# Altium schematic symbol library HBLib.SchLib: 29 symbols
Pins are listed as number, name and electrical type; pins without a type are passive.

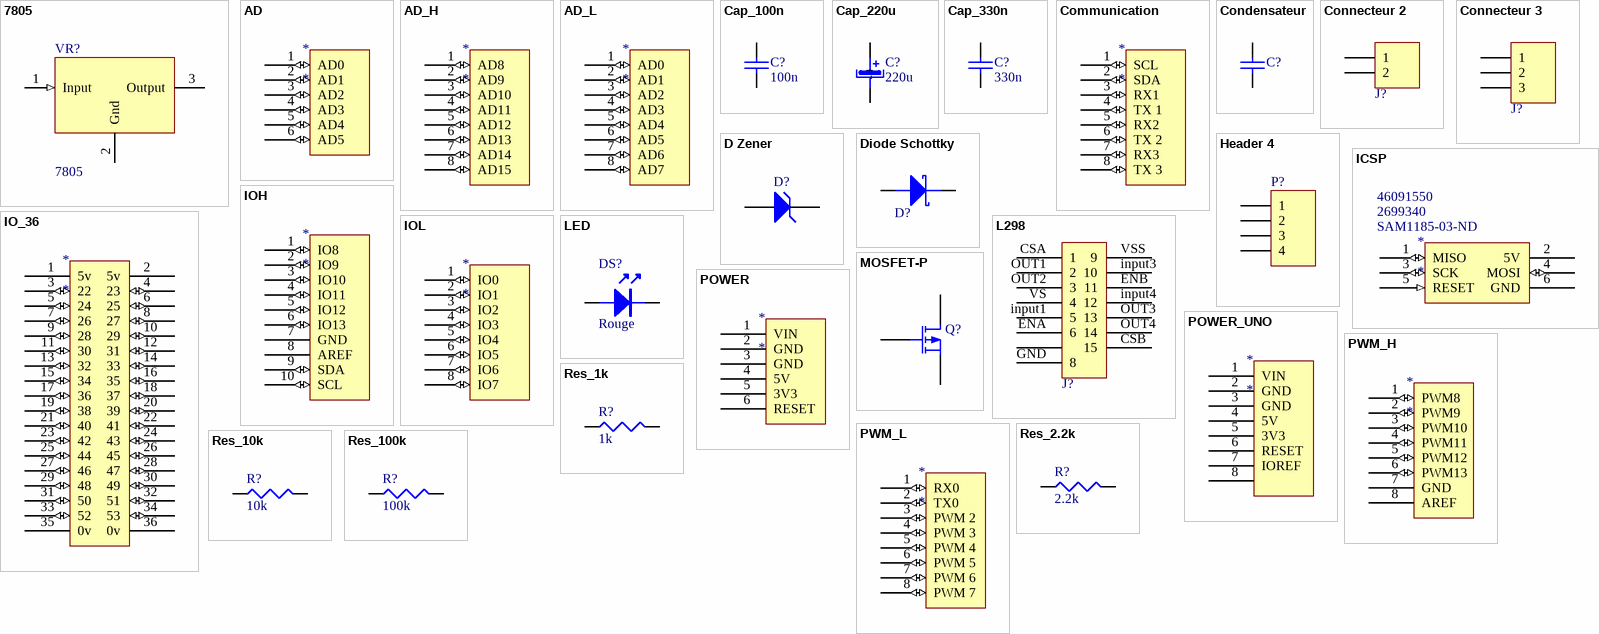
[diagram p0: symbols 7805 to Res_100k]

## 7805
designator VR?  Type: 7805
Régulateur 5V; Supplier: RS 536-0969; Designer: ECAM 2004
footprint TO252
footprint TO-220AB (TO, Thru-Hole, Vertical, Heatsink Mounted; 3 In-Line Leads; Pitch 2.54 mm)
pins: 1 Input (in), 2 Gnd (power), 3 Output (power)

## AD
designator *
Header, 6-Pin; Supplier: Farnell 2578705
footprint Header 6x1 8.5mm (Stackable 6 pin header)
pins: 1 AD0 (io), 2 AD1 (io), 3 AD2 (io), 4 AD3 (io), 5 AD4 (io), 6 AD5 (io)

## AD_H
designator *
Header, 8-Pin; Supplier: Farnell 2505051
footprint Header 8x1 8.5mm (Stackable 8 pin header)
pins: 1 AD8 (io), 2 AD9 (io), 3 AD10 (io), 4 AD11 (io), 5 AD12 (io), 6 AD13 (io), 7 AD14 (io), 8 AD15 (io)

## AD_L
designator *
Header, 8-Pin; Supplier: Farnell 2505051
footprint Header 8x1 8.5mm (Stackable 8 pin header)
pins: 1 AD0 (io), 2 AD1 (io), 3 AD2 (io), 4 AD3 (io), 5 AD4 (io), 6 AD5 (io), 7 AD6 (io), 8 AD7 (io)

## Cap_100n
designator C?  value 100n
Condensateur; Supplier: Farnell  2534095; Designer: ECAM 2004
footprint C1206 (Chip Capacitor, Body 3.2x1.6mm, IPC High Density)
footprint Model Name (Model Description)
pins: 1, 2

## Cap_220u
designator C?  value 220u
Condensateur polatisé; Type: Condensateur polarisé debout; Designer: ECAM 2004; Supplier: RS 537-0641
footprint CAPAE0810X700N
pins: NEG -, POS +
2 alternate drawings of the same symbol

## Cap_330n
designator C?  value 330n
Condensateur; Supplier: Farnell  2320905; Designer: ECAM 2004
footprint C1206 (Chip Capacitor, Body 3.2x1.6mm, IPC High Density)
footprint Model Name (Model Description)
pins: 1, 2

## Communication
designator *
Header, 8-Pin; Supplier: Farnell 2505051
footprint Header 8x1 8.5mm (Stackable 8 pin header)
pins: 1 SCL (io), 2 SDA (io), 3 RX1 (io), 4 TX 1 (io), 5 RX2 (io), 6 TX 2 (io), 7 RX3 (io), 8 TX 3 (io)

## Condensateur
designator C?
Condensateur; Supplier: Farnell; Designer: ECAM 2004
footprint C1206 (Chip Capacitor, Body 3.2x1.6mm, IPC High Density)
footprint Model Name (Model Description)
pins: 1, 2

## Connecteur 2
designator J?
Connecteur; Designer: ECAM 2005; Supplier: ECAM; Type: Connecteur à vis
footprint Header_2
pins: 1, 2

## Connecteur 3
designator J?
Connecteur; Designer: ECAM 2004; Type: Connecteur à vis
footprint CONVIS-3 (Connecteur à vis 3 contacts Pitch 5.08)
footprint HDR1X3 (Connector; Header; 3 Position)
pins: 1, 2, 3

## D Zener
designator D?
Zener Diode; Published: 8-Jun-2000; LatestRevisionDate: 17-Jul-2002; LatestRevisionNote: Re-released for DXP Platform.; PackageReference: DIODE-0.7; Publisher: Altium Limited; PackageDescription: Diode, Thru-Hole; 2 Leads; 0.7 in Pin Spacing; Supplier: RS 687-8146
footprint SOD-123
pins: 1 K, 2 A

## Diode Schottky
designator D?
Diode Schottky; Designer: ECAM 2005; Supplier: RS 708-2197
footprint SOD-123
pins: 1 K, 2 A

## Header 4
designator P?
Header, 4-Pin; LatestRevisionDate: 17-Jul-2002; LatestRevisionNote: Re-released for DXP Platform.; Publisher: Altium Limited; Supplier: Farnell 9731164
footprint MOLEX_22-27-2081
pins: 1, 2, 3, 4

## ICSP
designator *  Supplier Part Number 1: SAM1185-03-ND  Supplier Part Number 2: 2699340  Supplier Part Number 3: 46091550
Supplier 1: Digi-Key; Supplier 2: Arrow; Supplier 3: Arrow
footprint ICSP
pins: 1 MISO (io), 2 5V (power), 3 SCK (io), 4 MOSI (io), 5 RESET (in), 6 GND (power)

## IO_36
designator *
Header, 36-Pin; Supplier: RS 180-0956
footprint HEADER 36X 8MM (Stackable 10 pin header)
pins: 1 5v (power), 2 5v (power), 3 22 (io) "Digital 22", 4 23 (io) "Digital 23", 5 24 (io) "Digital 24", 6 25 (io) "Digital 25", 7 26 (io) "Digital 26", 8 27 (io) "Digital 27", 9 28 (io) "Digital 28", 10 29 (io) "Digital 29", 11 30 (io) "Digital 30", 12 31 (io) "Digital 31", 13 32 (io) "Digital 32", 14 33 (io) "Digital 33", 15 34 (io) "Digital 34", 16 35 (io) "Digital 35", 17 36 (io) "Digital 36", 18 37 (io) "Digital 37", 19 38 (io) "Digital 38", 20 39 (io) "Digital 39", 21 40 (io) "Digital 40", 22 41 (io) "Digital 41", 23 42 (io) "Digital 42", 24 43 (io) "Digital 43", 25 44 (io) "Digital 44", 26 45 (io) "Digital 45", 27 46 (io) "Digital 46", 28 47 (io) "Digital 47", 29 48 (io) "Digital 48", 30 49 (io) "Digital 49", 31 50 (io) "Digital 50", 32 51 (io) "Digital 51", 33 52 (io) "Digital 52", 34 53 (io) "Digital 53", 35 0v (power), 36 0v (power)

## IOH
designator *
Header, 10-Pin; Supplier: Farnell 2667433
footprint Header 10x1 8.5mm (Stackable 10 pin header)
pins: 1 IO8 (io), 2 IO9 (io), 3 IO10 (io), 4 IO11 (io), 5 IO12 (io), 6 IO13 (io), 7 GND (power), 8 AREF, 9 SDA (io), 10 SCL (io)

## IOL
designator *
Header, 8-Pin; Supplier: Farnell 2505051
footprint Header 8x1 8.5mm (Stackable 8 pin header)
pins: 1 IO0 (io), 2 IO1 (io), 3 IO2 (io), 4 IO3 (io), 5 IO4 (io), 6 IO5 (io), 7 IO6 (io), 8 IO7 (io)

## L298
designator J?
Connecteur; Designer: ECAM 2004; Supplier: ECAM
footprint MultiWatt15 (MultiWatt15; 15 Leads; Row Spacing 5.08 mm; Pitch 2.54 mm)
pins: CSA 1, CSB 15, ENA 6, ENB 11, GND 8, input1 5, input2 7, input3 10, input4 12, OUT1 2, OUT2 3, OUT3 13, OUT4 14, VS 4, VSS 9

## LED
designator DS?  Color: Rouge
LED; Designer: ECAM 2004; Type: LED; Supplier: RS 176-6077
footprint 3.5X2.8X1.9 (SM LED; 2 C-Bend Leads; Body 3.5 x 2.8 x 1.9 mm, inc leads (LxWxH typ))
pins: 1 A, 2 K

## MOSFET-P
designator Q?
P-Channel MOSFET; Published: 8-Jun-2000; LatestRevisionDate: 17-Jul-2002; LatestRevisionNote: Re-released for DXP Platform.; PackageVersion: 1995/1996; PackageReference: E3; Publisher: Altium Limited; PackageDescription: TO, Flat Index; 3 In-Line, Axial Leads; Body Dia. 4.6mm; Lead Dia. 0.5 mm (max); Supplier: RS 760-4246
footprint TO-220-AB (TO, Thru-Hole, Vertical, Heatsink Mounted; 3 In-Line Leads; Pitch 2.54 mm)
pins: D, G, S

## POWER
designator *
Header, 6-Pin; Supplier: Farnell 2578705
footprint Header 6x1 8.5mm (Stackable 6 pin header)
pins: 1 VIN (power), 2 GND (power), 3 GND (power), 4 5V (power), 5 3V3 (power), 6 RESET

## POWER_UNO
designator *
Header, 8-Pin; Supplier: Farnell 2505051
footprint Header 8x1 8.5mm (Stackable 8 pin header)
pins: 1 VIN (power), 2 GND (power), 3 GND (power), 4 5V (power), 5 3V3 (power), 6 RESET, 7 IOREF (power), 8

## PWM_H
designator *
Header, 8-Pin; Supplier: Farnell 2505051
footprint Header 8x1 8.5mm (Stackable 8 pin header)
pins: 1 PWM8 (io) "PWM 8", 2 PWM9 (io) "PWM 9", 3 PWM10 (io) "PWM 10", 4 PWM11 (io) "PWM 11", 5 PWM12 (io) "PWM 12", 6 PWM13 (io) "PWM 13", 7 GND (power), 8 AREF

## PWM_L
designator *
Header, 8-Pin; Supplier: Farnell 2505051
footprint Header 8x1 8.5mm (Stackable 8 pin header)
pins: 1 RX0 (io) "PWM 0 & RX0", 2 TX0 (io) "PWM 1 & TX0", 3 PWM 2 (io), 4 PWM 3 (io), 5 PWM 4 (io), 6 PWM 5 (io), 7 PWM 6 (io), 8 PWM 7 (io)

## Res_1k
designator R?  value 1k
Résistance standard; Designer: ECAM 2005; Supplier: RS 566-800; Type: Résistance standard
footprint 6-0805_L (Chip Resistor, Body 2.0x1.2mm, IPC High Density)
footprint J1-0603 (Chip Resistor, Body 1.6x0.8mm, IPC High Density)
pins: 1, 2
3 alternate drawings of the same symbol

## Res_2.2k
designator R?  value 2.2k
Résistance standard; Designer: ECAM 2005; Supplier: RS 679-1207; Type: Résistance standard
footprint 6-0805_L (Chip Resistor, Body 2.0x1.2mm, IPC High Density)
pins: 1, 2
3 alternate drawings of the same symbol

## Res_10k
designator R?  value 10k
Résistance standard; Designer: ECAM 2005; Supplier: RS 740-8805; Type: Résistance standard
footprint 6-0805_L (Chip Resistor, Body 2.0x1.2mm, IPC High Density)
footprint J1-0603 (Chip Resistor, Body 1.6x0.8mm, IPC High Density)
pins: 1, 2
3 alternate drawings of the same symbol

## Res_100k
designator R?  value 100k
Résistance standard; Designer: ECAM 2005; Supplier: RS 740-8802; Type: Résistance standard
footprint 6-0805_L (Chip Resistor, Body 2.0x1.2mm, IPC High Density)
footprint J1-0603 (Chip Resistor, Body 1.6x0.8mm, IPC High Density)
pins: 1, 2
3 alternate drawings of the same symbol